# EAGLE library part 2P4T (library switches)
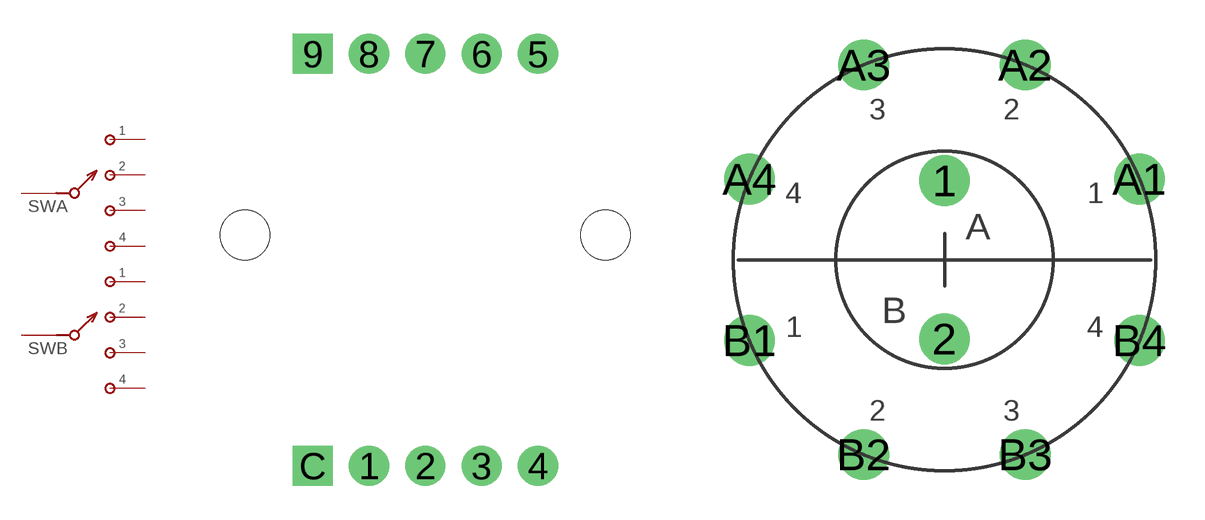
[diagram p2: symbol with the pads of SMALLROTARY; footprints SMALLROTARY, 2P4T_MINI]

Designator prefix SW; gates A=1P4T B=1P4T

## 2P4T  [SMALLROTARY]
1  A:1
2  A:2
3  A:3
4  A:4
5  B:1
6  B:2
7  B:3
8  B:4
9  B:A
C  A:A

## 2P4TMINI  [2P4T_MINI]
1  A:A
2  B:A
A1  A:1
A2  A:2
A3  A:3
A4  A:4
B1  B:1
B2  B:2
B3  B:3
B4  B:4

## Footprint SMALLROTARY (pad centres in mm)
drill 1 pad 1.778: 1 -2.5,-9.15; 2 0,-9.15; 3 2.5,-9.15; 4 5,-9.15; 5 5,9.15; 6 2.5,9.15; 7 0,9.15; 8 -2.5,9.15
drill 1 pad 1.778 square: 9 -5,9.15; C -5,-9.15
hole 2.2 at 8,1.1
hole 2.2 at -8,1.1

## Footprint 2P4T_MINI (pad centres in mm)
drill 1.1 pad 1.93: 1 0,3; 2 0,-3; A1 7.391,3.061; A2 3.061,7.391; A3 -3.061,7.391; A4 -7.391,3.061; B1 -7.391,-3.061; B2 -3.061,-7.391; B3 3.061,-7.391; B4 7.391,-3.061